# EAGLE library part CDC208 (library xess)
Dual 1-4 Clock Drivers
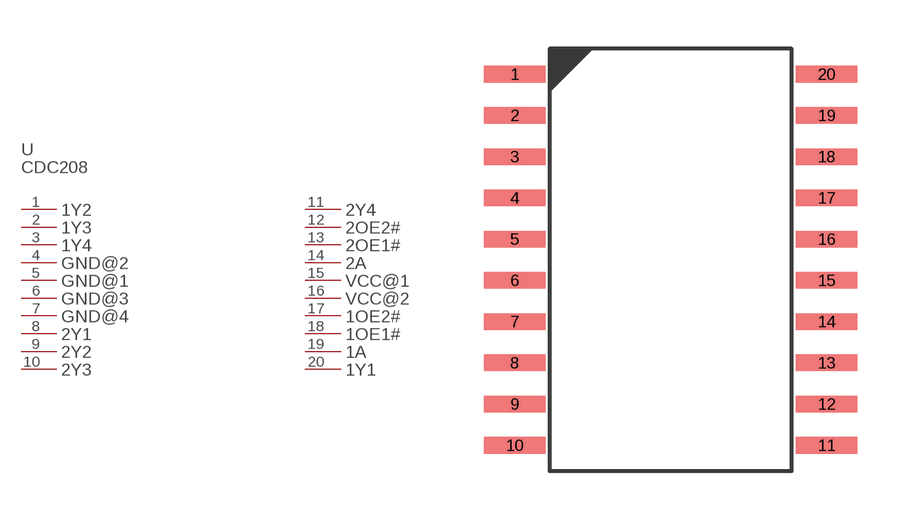
[diagram p75: symbol with the pads of CDC208; footprint CDC208]

Designator prefix U; gates PART_VALUE=PART_VALUE-CDC208 1Y2=PL-CDC208 1Y3=PL-CDC208 1Y4=PL-CDC208 GND@2=PL-CDC208 GND@1=PL-CDC208 GND@3=PL-CDC208 GND@4=PL-CDC208 2Y1=PL-CDC208 2Y2=PL-CDC208 2Y3=PL-CDC208 2Y4=PL-CDC208 2OE2#=PL-CDC208 2OE1#=PL-CDC208 2A=PL-CDC208 VCC@1=PL-CDC208 VCC@2=PL-CDC208 1OE2#=PL-CDC208 1OE1#=PL-CDC208 1A=PL-CDC208 1Y1=PL-CDC208

## CDC208  [CDC208]
1  1Y2:P$1
2  1Y3:P$1
3  1Y4:P$1
4  GND@2:P$1
5  GND@1:P$1
6  GND@3:P$1
7  GND@4:P$1
8  2Y1:P$1
9  2Y2:P$1
10  2Y3:P$1
11  2Y4:P$1
12  2OE2#:P$1
13  2OE1#:P$1
14  2A:P$1
15  VCC@1:P$1
16  VCC@2:P$1
17  1OE2#:P$1
18  1OE1#:P$1
19  1A:P$1
20  1Y1:P$1

## Footprint CDC208 (pad centres in mm)
smd 1.89 x 0.51: 1 -0.11,0; 2 -0.11,-1.27; 3 -0.11,-2.54; 4 -0.11,-3.81; 5 -0.11,-5.08; 6 -0.11,-6.35; 7 -0.11,-7.62; 8 -0.11,-8.89; 9 -0.11,-10.16; 10 -0.11,-11.43; 11 9.49,-11.43; 12 9.49,-10.16; 13 9.49,-8.89; 14 9.49,-7.62; 15 9.49,-6.35; 16 9.49,-5.08; 17 9.49,-3.81; 18 9.49,-2.54; 19 9.49,-1.27; 20 9.49,0